# Altium schematic symbol library MySchematicLib.SchLib: 2 symbols
Pins are listed as number, name and electrical type; pins without a type are passive.

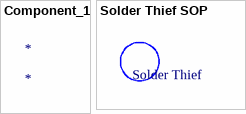
[diagram p0: symbols Component_1 to Solder Thief SOP]

## Component_1
designator *

## Solder Thief SOP
designator *, comment Solder Thief
footprint SOP Solder Thief